# Altium schematic symbol library AP2822AKATR-G1.SchLib: 1 symbol
Pins are listed as number, name and electrical type; pins without a type are passive.

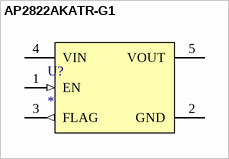
[diagram p0: symbol AP2822AKATR-G1]

## AP2822AKATR-G1
designator U?
pins: 1 EN (in), 2 GND, 3 FLAG (out), 4 VIN, 5 VOUT